# EAGLE library part 26VS (library 1A-meinLib)
CONNECTOR
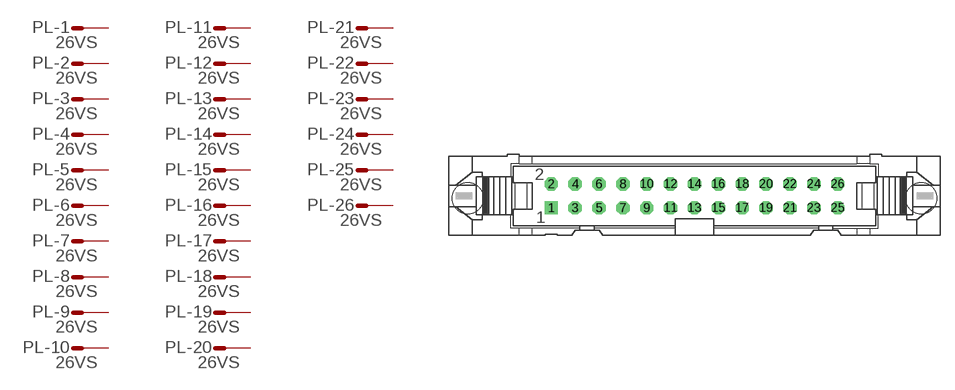
[diagram p131: symbol with the pads of 26V; footprint 26V]

Designator prefix PL; gates -1=M-1 -2=M-1 -3=M-1 -4=M-1 -5=M-1 -6=M-1 -7=M-1 -8=M-1 -9=M-1 -10=M-1 -11=M-1 -12=M-1 -13=M-1 -14=M-1 -15=M-1 -16=M-1 -17=M-1 -18=M-1 -19=M-1 -20=M-1 -21=M-1 -22=M-1 -23=M-1 -24=M-1 -25=M-1 -26=M-1

## 26VS  [26V]
1  -1:S  pas
2  -2:S  pas
3  -3:S  pas
4  -4:S  pas
5  -5:S  pas
6  -6:S  pas
7  -7:S  pas
8  -8:S  pas
9  -9:S  pas
10  -10:S  pas
11  -11:S  pas
12  -12:S  pas
13  -13:S  pas
14  -14:S  pas
15  -15:S  pas
16  -16:S  pas
17  -17:S  pas
18  -18:S  pas
19  -19:S  pas
20  -20:S  pas
21  -21:S  pas
22  -22:S  pas
23  -23:S  pas
24  -24:S  pas
25  -25:S  pas
26  -26:S  pas

## Footprint 26V (pad centres in mm)
CONNECTOR
drill 0.914 square: 1 -15.24,-1.27
drill 0.914 octagon: 2 -15.24,1.27; 3 -12.7,-1.27; 4 -12.7,1.27; 5 -10.16,-1.27; 6 -10.16,1.27; 7 -7.62,-1.27; 8 -7.62,1.27; 9 -5.08,-1.27; 10 -5.08,1.27; 11 -2.54,-1.27; 12 -2.54,1.27; 13 0,-1.27; 14 0,1.27; 15 2.54,-1.27; 16 2.54,1.27; 17 5.08,-1.27; 18 5.08,1.27; 19 7.62,-1.27; 20 7.62,1.27; 21 10.16,-1.27; 22 10.16,1.27; 23 12.7,-1.27; 24 12.7,1.27; 25 15.24,-1.27; 26 15.24,1.27
hole 3.302 at 24.13,-0.254
hole 3.302 at -24.13,-0.254